# EAGLE library part TPS6307X (library texas)
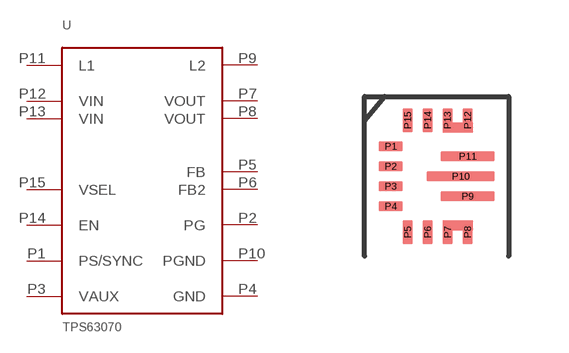
[diagram p126: symbol with the pads of VQFN15_2.5X3; footprint VQFN15_2.5X3]

Designator prefix -

## TPS6307X  [VQFN15_2.5X3]
P1  PS/SYNC
P2  PG
P3  VAUX
P4  GND
P5  FB
P6  FB2
P7  VOUT
P8  VOUT
P9  L2
P10  PGND
P11  L1
P12  VIN
P13  VIN
P14  EN
P15  VSEL

## Footprint VQFN15_2.5X3 (pad centres in mm)
smd 0.6 x 0.25: P1 -1.15,0.75; P2 -1.15,0.25; P3 -1.15,-0.25; P4 -1.15,-0.75
smd 0.25 x 0.6: P5 -0.725,-1.4; P6 -0.225,-1.4; P7 0.275,-1.4; P8 0.775,-1.4; P12 0.775,1.4; P13 0.27,1.4; P14 -0.225,1.4; P15 -0.725,1.4
smd 1.35 x 0.25: P9 0.775,-0.5; P11 0.775,0.5
smd 1.7 x 0.25: P10 0.6,0